# Altium footprint library FanliPcbLib.PcbLib: 4 footprints
Each footprint in its own frame and in the unit in brackets; x right, y up, seen from the top. Pads: shape width x height; smd on the part's side, far side on the other; paste and mask are expansions set on the pad; w line width, h text height; cw(c..) or ccw(c..) is an arc to the next point about the centre after c.
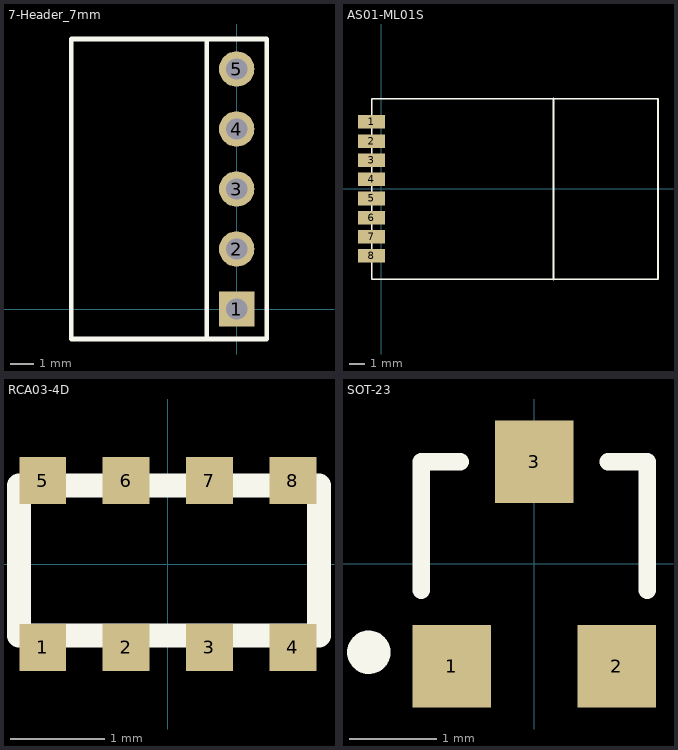
[diagram p0: the footprints below, top view; thin cyan lines are the x and y axes]

## 7-Header_7mm [mm]
pads (5):
  rect 1.5x1.5 hole 0.9: 1(0,0)
  round 1.5 hole 0.9: 2(0,2.54) 3(0,5.08) 4(0,7.62) 5(0,10.16)
Top Overlay:
  lines w0.2: -7,-1.27 -7,11.43 ; -1.27,-1.27 1.27,-1.27 1.27,11.43 -1.27,11.43 -1.27,-1.27
  lines w0.203: -7,-1.27 -1.27,-1.27 ; -7,11.43 -1.27,11.43

## AS01-ML01S [mm]
pads (8):
  rect 1.8x0.9 smd: 1(-0.635,4.445) 2(-0.635,3.175) 3(-0.635,1.905) 4(-0.635,0.635) 5(-0.635,-0.635) 6(-0.635,-1.905) 7(-0.635,-3.175) 8(-0.635,-4.445)
Top Overlay:
  lines w0.1: -0.635,-6.005 18.365,-6.005 18.365,5.995 -0.635,5.995 -0.635,-6.005
  lines w0.127: 11.43,-6.005 11.43,5.995

## RCA03-4D [mm] "0603-排阻"
pads (8):
  rect 0.5x0.5 smd: 1(-1.333,-0.889) 2(-0.445,-0.889) 3(0.445,-0.889) 4(1.333,-0.889) 5(-1.333,0.889) 6(-0.445,0.889) 7(0.445,0.889) 8(1.333,0.889)
Top Overlay:
  lines w0.254: -1.587,-0.762 1.613,-0.762 1.613,0.838 -1.587,0.838 -1.587,-0.762

## SOT-23 [mm]
pads (3):
  rect 0.9x0.95 smd: 1(-0.95,-1.175) 2(0.95,-1.175) 3(0,1.175)
Top Overlay:
  circle w0.25: c-1.903,-1.016 r0.125
  lines w0.2: -1.3,-0.3 -1.3,1.175 -0.85,1.175 ; 0.85,1.175 1.3,1.175 1.3,-0.3